# Altium schematic symbol library Electric_Interface_Lib.SchLib: 10 symbols
Pins are listed as number, name and electrical type; pins without a type are passive.

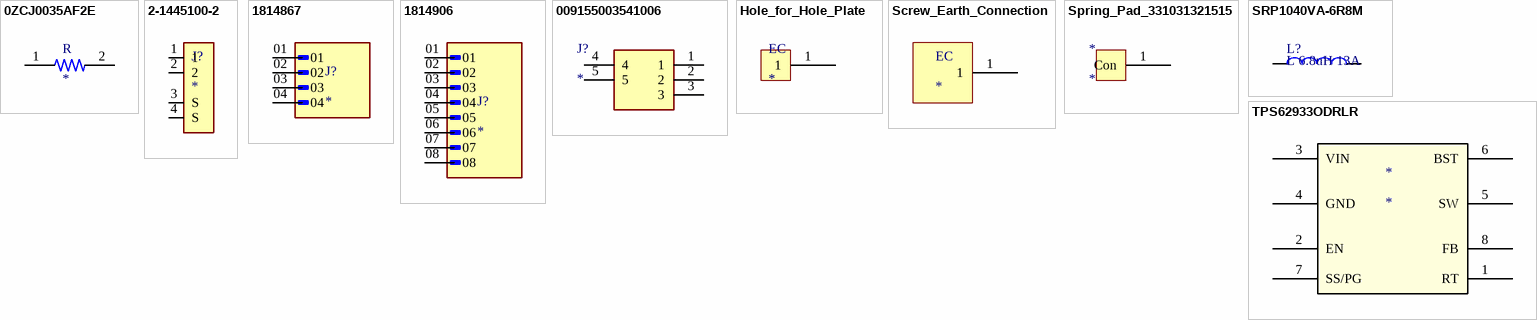
[diagram p0: symbols 0ZCJ0035AF2E to TPS62933ODRLR]

## 0ZCJ0035AF2E
designator R
1206 SMT PPTC | 0.35 Ih | 30V; MP: 0ZCJ0035AF2E; MF: Bel Fuse; Package: 1206 Bel Fuse; SnapEDA_Link: https://www.snapeda.com/parts/0ZCJ0035AF2E/Bel%20Fuse%20Inc./view-part/703881/?ref=snap; Value: *
footprint RESC3216X125N
pins: 1, 2

## 2-1445100-2
designator J?
Micro MATE-N-LOK 2 Position Surface Mount Single Row Straight 3 mm Pin Header; MF: TE Connectivity; MP: 2-1445053-2; SnapEDA_Link: https://www.snapeda.com/parts/2-1445053-2/TE%20Connectivity%20AMP%20Connectors/view-part/2550164/?ref=snap; Availability: Warning; Price: None; Value: *; Check_prices: https://www.snapeda.com/parts/2-1445053-2/TE%20Connectivity%20AMP%20Connectors/view-part/2550164/?ref=eda; Package: None; Purchase-URL: https://pricing.snapeda.com/search/part/2-1445053-2/?ref=eda; ComponentLink1Description: https://www.mouser.ch/ProductDetail/TE-Connectivity-AMP/2-1445100-2?qs=Eu63EZxBwKLN%252BqRynWVYCw%3D%3D; ComponentLink1URL: *
footprint 2-1445100-2
pins: 1, 2, 3 S, 4 S

## 1814867
designator J?
Pluggable Header 2.5mm 20AWG 160V 6A 4 Position COMBICON PTSM Series | Phoenix Contact 1814867; SnapEDA_Link: https://www.snapeda.com/parts/1814867/Phoenix+Contact/view-part/?ref=snap; Package: None; Value: *; MF: Phoenix Contact; MP: 1814867; Check_prices: https://www.snapeda.com/parts/1814867/Phoenix+Contact/view-part/?ref=eda; ComponentLink1Description: https://www.phoenixcontact.com/en-us/products/pcb-header-ptsm-05-4-hh-25-thr-wh-r32-1814867; ComponentLink1URL: *
footprint PHOENIX_1814867
pins: 01, 02, 03, 04

## 1814906
designator J?
MF: {'manufacturer': u'Phoenix Contact'}; MP: 1814906; Package: None; Price: None; Value: *; Availability: Unavailable; ComponentLink1Description: https://www.phoenixcontact.com/en-us/products/pcb-header-ptsm-05-8-hh-25-thr-wh-r44-1814906; ComponentLink1URL: *
footprint PHOENIX_1814906
pins: 01, 02, 03, 04, 05, 06, 07, 08

## 009155003541006
designator J?
Connector; Manufacturer_Name: Kyocera AVX; Manufacturer_Part_Number: 009155003541006; Datasheet Link: http://www.mouser.com/datasheet/2/40/RightAngle2.5mmPitch_9155-500-845733.pdf; Height: 4mm; Mouser Part Number: 581-009155003541006; Mouser Price/Stock: https://www.mouser.co.uk/ProductDetail/AVX/009155003541006?qs=aTQdX%252BfNGTp5QwJ6nid1rw%3D%3D; Arrow Part Number: 009155003541006; Arrow Price/Stock: https://www.arrow.com/en/products/009155003541006/avx
footprint 009155003541006
pins: 1, 2, 3, 4, 5

## Hole_for_Hole_Plate
designator EC
footprint Hole_for_Hole_Plate
pins: 1

## Screw_Earth_Connection
designator EC
footprint Screw_Earth_Connector_Pad
pins: 1

## Spring_Pad_331031321515
designator *
footprint Spring_Contact_Pad_331031321515
pins: 1 Con

## SRP1040VA-6R8M
designator L?, comment L 6.8uH 13A
ComponentLink1Description: https://www.bourns.com/docs/product-datasheets/srp1040va.pdf; ComponentLink1URL: *
footprint SRP1040VA-6R8M
pins: 1, 2

## TPS62933ODRLR
designator *
Buck Converter; ComponentLink1Description: https://eu.mouser.com/ProductDetail/Texas-Instruments/TPS62933ODRLR?qs=By6Nw2ByBD3VuSv7z7GudQ%3D%3D; ComponentLink1URL: *
footprint SOT5X3-8_DRL_TEX
pins: 1 RT, 2 EN, 3 VIN (power), 4 GND (power), 5 SW (power), 6 BST (power), 7 SS/PG, 8 FB